# Altium integrated library WS-DESV.intlib: 1 symbol
Pins are listed as number, name and electrical type; pins without a type are passive.

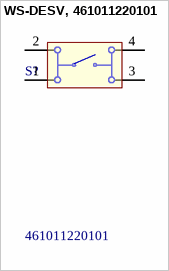
[diagram p0: symbol WS-DESV, 461011220101]

## WS-DESV, 461011220101
designator S?, comment 461011220101
WS-DESV 4.7x3.8 mm SMD Detector Switch; Manufacturer: Wurth Elektronik; ComponentLink1 Description: Manufacturer; ComponentLink2 Description: Datasheet; Creat by: Baojun Chen; NoPins: 04; Creat Date: Dec.2015; partNo: 461011220101; ComponentLink1URL: http://www.we-online.com; ComponentLink2URL: http://katalog.we-online.de/em/datasheet/461011220101.pdf
footprint 461011220101 (4.7*3.8mm vertical type, SMD, right side operation,height 3.8mm, black actuator, 60gf, T&R)
pins: 1, 2, 3, 4